# EAGLE library part 532955-2 (library con-amp)
PCB Connector
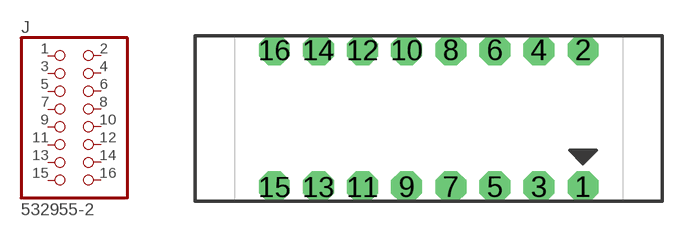
[diagram p128: symbol with the pads of 532955-2; footprint 532955-2]

Designator prefix J

## 532955-2  [532955-2]
1  1  pas
2  2  pas
3  3  pas
4  4  pas
5  5  pas
6  6  pas
7  7  pas
8  8  pas
9  9  pas
10  10  pas
11  11  pas
12  12  pas
13  13  pas
14  14  pas
15  15  pas
16  16  pas

## Footprint 532955-2 (pad centres in mm)
PCB Connector 16 Pin Female Receptacal, 2x8, 0.1" spacing
drill 1.016 pad 1.778 octagon: 1 8.89,-3.937; 2 8.89,3.937; 3 6.35,-3.937; 4 6.35,3.937; 5 3.81,-3.937; 6 3.81,3.937; 7 1.27,-3.937; 8 1.27,3.937; 9 -1.27,-3.937; 10 -1.27,3.937; 11 -3.81,-3.937; 12 -3.81,3.937; 13 -6.35,-3.937; 14 -6.35,3.937; 15 -8.89,-3.937; 16 -8.89,3.937